# EAGLE library part MCP9808 (library idiotic-sensors)
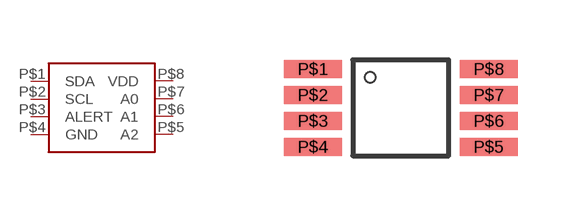
[diagram p0: symbol with the pads of MSOP-8; footprint MSOP-8]

Designator prefix -

## MCP9808  [MSOP-8]
P$1  SDA
P$2  SCL
P$3  ALERT  out
P$4  GND  pwr
P$5  A2  in
P$6  A1  in
P$7  A0  in
P$8  VDD  pwr

## Footprint MSOP-8 (pad centres in mm)
smd 1.45 x 0.45: P$1 -2.2,0.975; P$2 -2.2,0.325; P$3 -2.2,-0.325; P$4 -2.2,-0.975; P$5 2.2,-0.975; P$6 2.2,-0.325; P$7 2.2,0.325; P$8 2.2,0.975